# Altium schematic symbol library AN7002Q_SCHLIB_241119.SchLib: 3 symbols
Pins are listed as number, name and electrical type; pins without a type are passive.

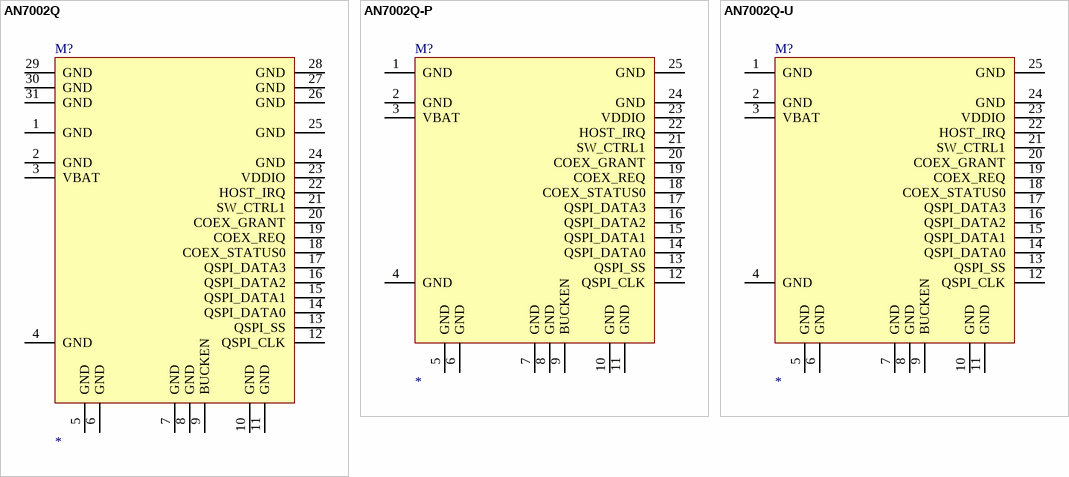
[diagram p0: symbols AN7002Q to AN7002Q-U]

## AN7002Q
designator M?
AN7002Q
footprint AN7002Q
pins: 1 GND, 2 GND, 3 VBAT, 4 GND, 5 GND, 6 GND, 7 GND, 8 GND, 9 BUCKEN, 10 GND, 11 GND, 12 QSPI_CLK, 13 QSPI_SS, 14 QSPI_DATA0, 15 QSPI_DATA1, 16 QSPI_DATA2, 17 QSPI_DATA3, 18 COEX_STATUS0, 19 COEX_REQ, 20 COEX_GRANT, 21 SW_CTRL1, 22 HOST_IRQ, 23 VDDIO, 24 GND, 25 GND, 26 GND, 27 GND, 28 GND, 29 GND, 30 GND, 31 GND

## AN7002Q-P
designator M?
AN7002Q-P
footprint AN7002Q-P
pins: 1 GND, 2 GND, 3 VBAT, 4 GND, 5 GND, 6 GND, 7 GND, 8 GND, 9 BUCKEN, 10 GND, 11 GND, 12 QSPI_CLK, 13 QSPI_SS, 14 QSPI_DATA0, 15 QSPI_DATA1, 16 QSPI_DATA2, 17 QSPI_DATA3, 18 COEX_STATUS0, 19 COEX_REQ, 20 COEX_GRANT, 21 SW_CTRL1, 22 HOST_IRQ, 23 VDDIO, 24 GND, 25 GND

## AN7002Q-U
designator M?
AN7002Q-U
footprint AN7002Q-U
pins: 1 GND, 2 GND, 3 VBAT, 4 GND, 5 GND, 6 GND, 7 GND, 8 GND, 9 BUCKEN, 10 GND, 11 GND, 12 QSPI_CLK, 13 QSPI_SS, 14 QSPI_DATA0, 15 QSPI_DATA1, 16 QSPI_DATA2, 17 QSPI_DATA3, 18 COEX_STATUS0, 19 COEX_REQ, 20 COEX_GRANT, 21 SW_CTRL1, 22 HOST_IRQ, 23 VDDIO, 24 GND, 25 GND